# EAGLE library part 1554ЛИ1 (library std-logic-1554series)
АЕЯР.431200.182-08 ТУ 1554ЛИ1 - Четыре логических элемента "2И". Изготовитель: ОАО "ИНТЕГРАЛ", г. Минск, р. Беларусь. Технические условия (ТБМ): АЕЯР.431200.182-08 ТУ Технические условия (не ТБМ): АЕЯР.431200.093-01 ТУ
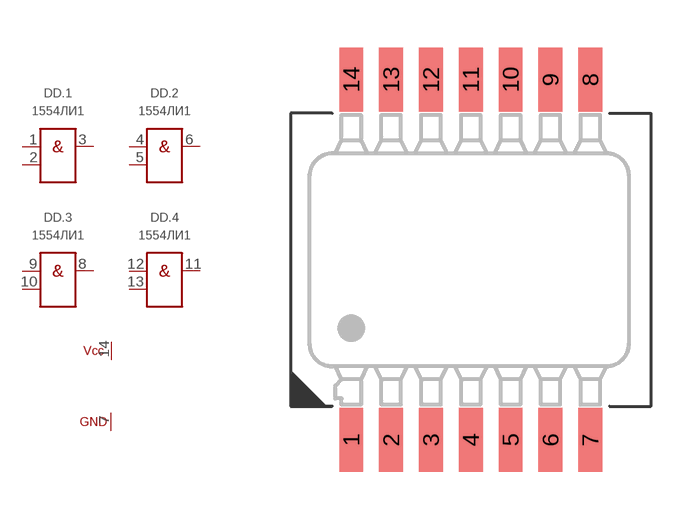
[diagram p13: symbol with the pads of 401.14-5; footprint 401.14-5]

Designator prefix DD; gates .1=1554ЛИ1 .2=1554ЛИ1 .3=1554ЛИ1 .4=1554ЛИ1 G$1=1554_PWR3

## 1554ЛИ1ТБМ  [401.14-5]
1  .1:A  in
2  .1:B  in
3  .1:Y  in
4  .2:A  in
5  .2:B  in
6  .2:Y  in
7  G$1:GND  pwr
8  .3:Y  in
9  .3:A  in
10  .3:B  in
11  .4:Y  in
12  .4:A  in
13  .4:B  in
14  G$1:VCC  pwr

## Footprint 401.14-5 (pad centres in mm)
smd 0.75 x 2: 1 -3.7,-5.65; 2 -2.45,-5.65; 3 -1.2,-5.65; 4 0.05,-5.65; 5 1.3,-5.65; 6 2.55,-5.65; 7 3.8,-5.65; 8 3.8,5.65; 9 2.55,5.65; 10 1.3,5.65; 11 0.05,5.65; 12 -1.2,5.65; 13 -2.45,5.65; 14 -3.7,5.65